# Altium footprint library TT_Pcb.PcbLib: 43 footprints (part 3 of 3)
Each footprint in its own frame and in the unit in brackets; x right, y up, seen from the top. Pads: shape width x height; smd on the part's side, far side on the other; paste and mask are expansions set on the pad; w line width, h text height; cw(c..) or ccw(c..) is an arc to the next point about the centre after c.
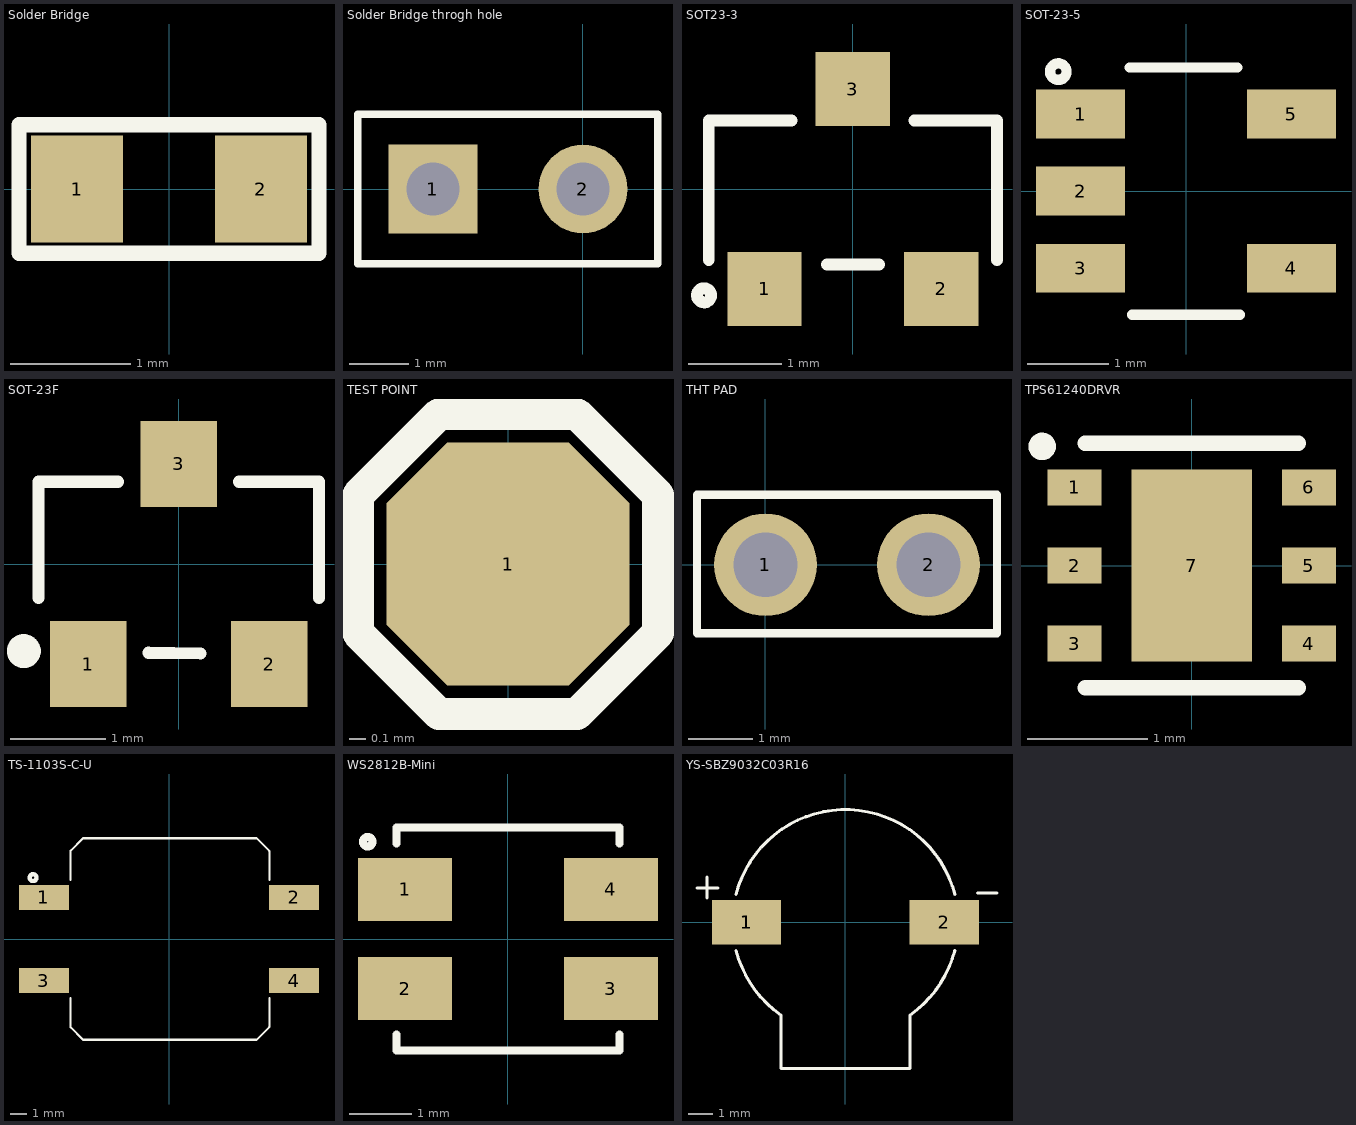
[diagram p2: the footprints below, top view; thin cyan lines are the x and y axes]

## Solder Bridge [mil] "Solder Bridge ON"
pads (2):
  rect 30x35 smd: 1(-30,0) 2(30,0)
Top Overlay:
  lines w5: -49,-21 49,-21 49,21 -49,21 -49,-21

## Solder Bridge throgh hole [mm]
pads (2):
  rect 1.5x1.5 hole 0.9: 1(-2.54,0)
  round 1.5 hole 0.9: 2(0,0)
Top Overlay:
  lines w0.127: -3.81,-1.27 -3.81,1.27 1.27,1.27 1.27,-1.27 -3.81,-1.27

## SOT23-3 [mm] "SOT23, 3-Leads, Body 2.9x1.3mm, Pitch 0.95mm, Lead Span 2.3mm - Reverse Pinning, IPC High Density"
height 1.1
pads (3):
  rect 0.8x0.8 smd: 1(-0.95,-1.075) 2(0.95,-1.075) 3(0,1.075)
Top Overlay:
  circle w0.127: c-1.6,-1.143 r0.076
  lines w0.127: -1.55,-0.762 -1.55,0.737 -0.661,0.737 ; -0.28,-0.813 0.279,-0.813 ; 0.66,0.737 1.549,0.737 1.549,-0.762
3D body "CircuitWorks-SOT-23.step": height 1.05, standoff -0.05, extent -1.5,-1.25 1.5,1.25

## SOT-23-5 [mm] "IC REG BOOST 5V 2.5A SOT23-5"
pads (5):
  rect 1.1x0.6 smd: 1(-1.3,0.95) 2(-1.3,0) 3(-1.3,-0.95) 4(1.3,-0.95) 5(1.3,0.95)
Top Overlay:
  circle w0.127: c-1.575,1.473 r0.102
  lines w0.127: -0.695,1.524 0.635,1.524 ; -0.665,-1.524 0.665,-1.524
3D body "CircuitWorks-SOT-23-5.step": height 1.1, standoff 0, extent -1.25,-1.5 1.25,1.5

## SOT-23F [mm]
pads (3):
  rect 0.8x0.9 smd: 1(-0.95,-1.05) 2(0.95,-1.05) 3(0,1.05)
Top Overlay:
  circle w0.254: c-1.626,-0.914 r0.051
  lines w0.127: -1.473,-0.356 -1.473,0.864 -0.635,0.864 ; -0.315,-0.932 0.229,-0.94 ; 0.635,0.864 1.473,0.864 1.473,-0.356
3D body "User Library-SOT23F.STEP": height 0.89, standoff -0.02, extent -1.45,-1.2 1.45,1.2

## TEST POINT [mil]
pads (1):
  oct 60x60 smd: 1(0,0)
Top Overlay:
  lines w7.87: -17,-37 17,-37 ; -17,-37 -37,-17 -37,17 -17,37 ; -17,-37 17,-37 ; -17,37 17,37 ; -17,37 17,37 ; 17,-37 37,-17 37,17 17,37

## THT PAD [mm]
pads (2):
  round 1.6 hole 1: 1(0,0) 2(2.54,0)
Top Overlay:
  lines w0.127: -1.067,-1.067 3.607,-1.067 3.607,1.092 -1.067,1.092 -1.067,-1.067

## TPS61240DRVR [mm] "IC REG BOOST 5V 500MA 6SON"
pads (7):
  rect 0.45x0.3 smd: 1(-0.975,0.65) 2(-0.975,0) 3(-0.975,-0.65) 4(0.975,-0.65) 5(0.975,0) 6(0.975,0.65)
  rect 1x1.6 smd: 7(0,0)
Top Overlay:
  circle w0.127: c-1.245,0.991 r0.051
  lines w0.127: -0.888,1.016 0.888,1.016 ; -0.886,-1.016 0.889,-1.016
3D body "TPS61240DRVR.STEP": height 0.8, standoff 0, extent -1,-1 1,1

## TS-1103S-C-U [mm] "SPST 50mA @ 12VDC Vertical Round Button 260gf SMD Tactile Switches RoHS"
pads (4):
  rect 3x1.5 smd: 1(-7.5,2.5) 2(7.5,2.5) 3(-7.5,-2.5) 4(7.5,-2.5)
Top Overlay:
  circle w0.254: c-8.153,3.683 r0.205
  lines w0.127: -5.918,-5.283 -5.918,-3.556 ; -5.918,3.556 -5.918,5.283 ; -5.905,-5.296 -5.156,-6.045 5.258,-6.045 6.007,-5.296 ; -5.905,5.296 -5.156,6.045 5.258,6.045 6.007,5.296 ; 6.02,-5.283 6.02,-3.556 ; 6.02,3.556 6.02,5.283
3D body "b3fs-4002p.stp": height 4.3, standoff 0, extent -7.5,-6 7.5,6

## WS2812B-Mini [mm] "SMD,3.5x3.5mm Light Emitting Diodes (LED) RoHS"
pads (4):
  rect 1.5x1 smd: 1(-1.64,0.79) 2(-1.64,-0.79) 3(1.64,-0.79) 4(1.64,0.79)
Top Overlay:
  circle w0.127: c-2.235,1.549 r0.076
  lines w0.127: -1.778,-1.524 -1.778,-1.778 1.778,-1.778 1.778,-1.524 ; -1.778,1.524 -1.778,1.778 1.778,1.778 1.778,1.524
3D body "SMD WS2812B Mini.step": height 1.95, standoff 0, extent -1.84,-1.74 1.84,1.74

## YS-SBZ9032C03R16 [mm] "NO 2700Hz 85dB @ 3V, 10cm 3V F9mm SMD,9x3.2mm Buzzers RoHS"
pads (4):
  rect 2.8x1.8 smd: 1(-4,0) 1(-4,0) 1(-4,0) 2(4,0)
Top Overlay:
  lines w0.127: -6.007,1.397 -5.168,1.397 ; -5.6,0.991 -5.6,1.829 ; -4.426,-1.132 ccw(c0,0) -2.607,-3.752 -2.607,-5.909 2.607,-5.909 2.607,-3.752 ccw(c0,0) 4.426,-1.132 ; -4.426,1.132 cw(c0,0) 4.428,1.125 ; 5.347,1.194 6.135,1.194
3D body "KLJ-9032-3627.stp": height 3.21, standoff -0.15, extent -5.237,-5.974 5.263,4.526